# Altium footprint library running car pcb.PcbLib: 35 footprints (part 1 of 3)
Each footprint in its own frame and in the unit in brackets; x right, y up, seen from the top. Pads: shape width x height; smd on the part's side, far side on the other; paste and mask are expansions set on the pad; w line width, h text height; cw(c..) or ccw(c..) is an arc to the next point about the centre after c.
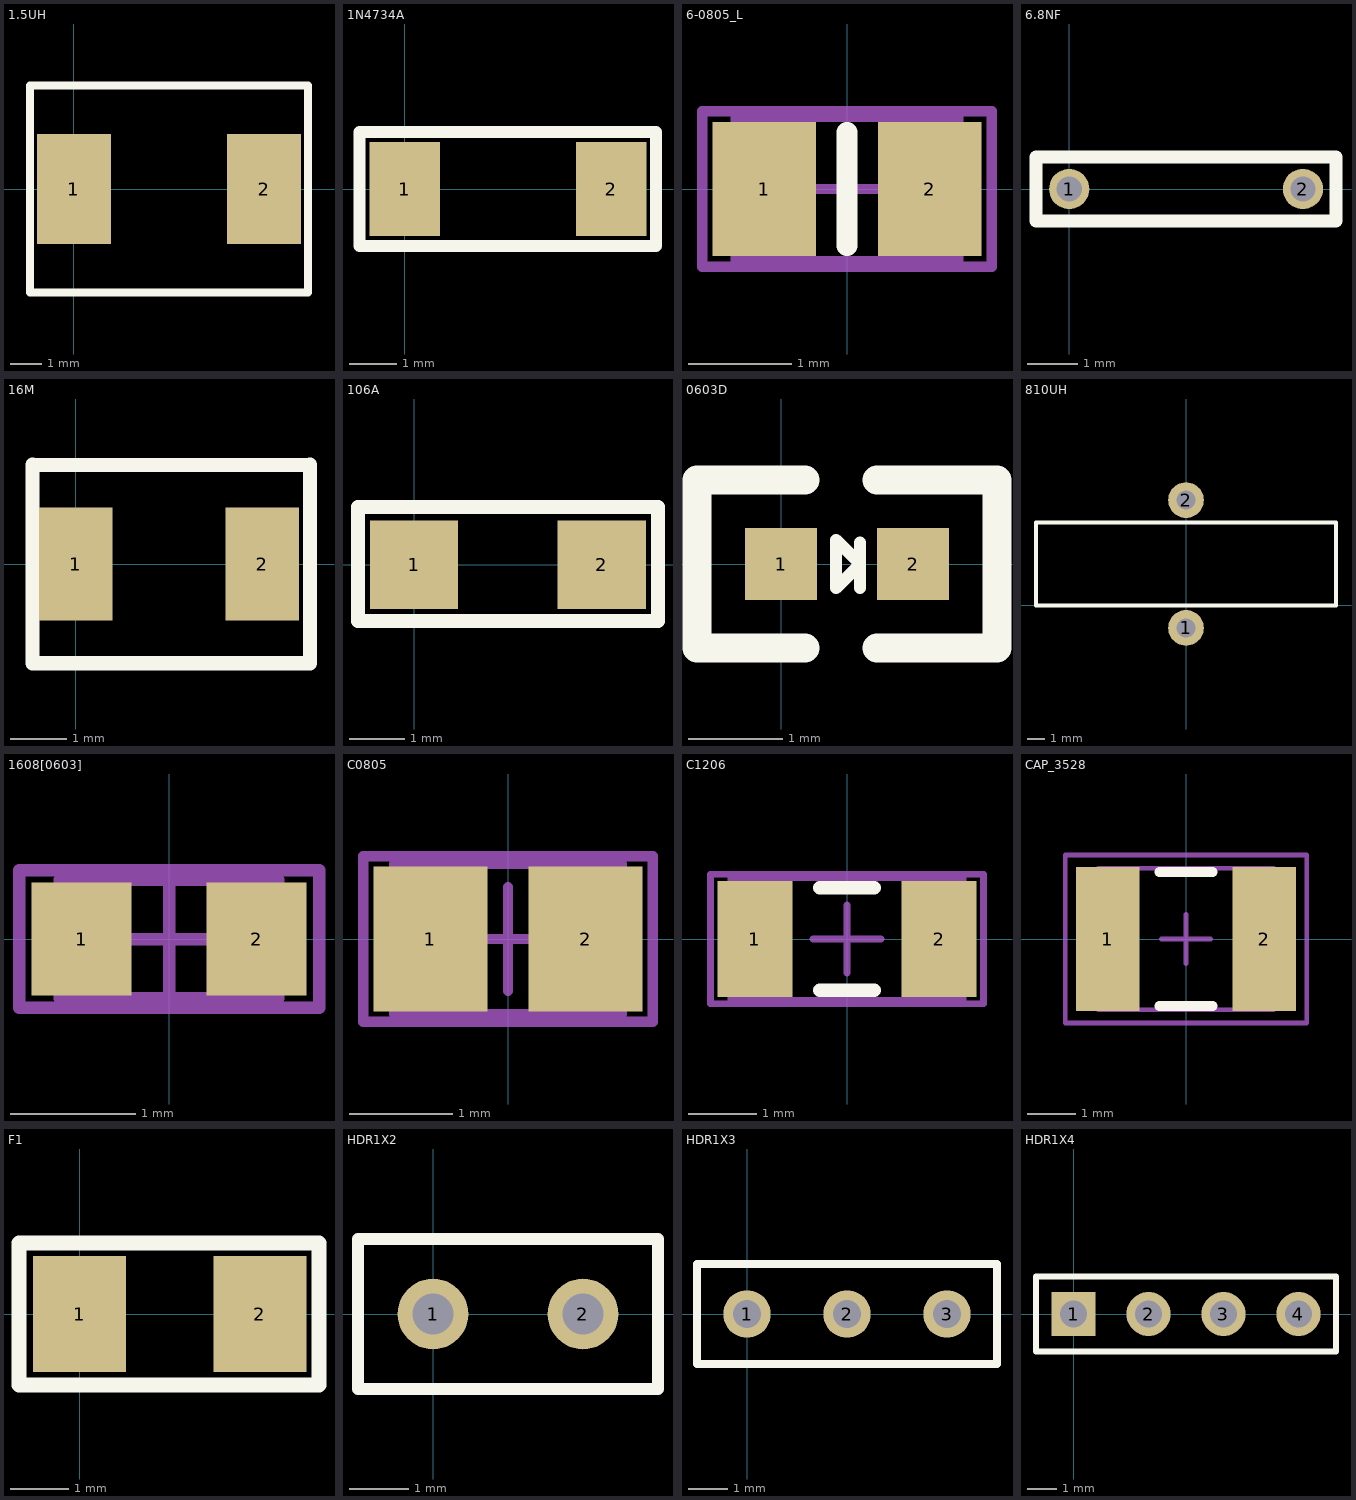
[diagram p0: the footprints below, top view; thin cyan lines are the x and y axes]

## 1.5UH [mm] "Chip Resistor, Body 2.0x1.2mm, IPC High Density"
height 0.7
pads (2):
  rect 2.35x3.5 smd: 1(0,0) 2(6.05,0)
Top Overlay:
  lines w0.254: -1.397,-3.3 -1.397,3.3 7.442,3.3 7.442,-3.3 -1.397,-3.3

## 1N4734A [mm]
pads (2):
  rect 1.5x2 smd: 1(0,0) 2(4.4,0)
Top Overlay:
  lines w0.254: -0.965,-1.219 5.359,-1.219 5.359,1.219 -0.965,1.219 -0.965,-1.219

## 6-0805_L [mm] "Chip Resistor, Body 2.0x1.2mm, IPC High Density"
height 0.7
pads (2):
  rect 1x1.3 smd: 1(-0.8,0) 2(0.8,0)
Top Overlay:
  lines w0.2: 0,-0.55 0,0.55
Mechanical 13:
  lines w0.1: -1.075,-0.7 1.075,-0.7 1.075,0.7 -1.075,0.7 -1.075,-0.7
Mechanical 15:
  lines w0.1: -0.5,0 0.5,0 ; 0,-0.5 0,0.5 ; -1.4,-0.75 1.4,-0.75 1.4,0.75 -1.4,0.75 -1.4,-0.75
3D body: height 0.7, standoff 0, extent -1.075,-0.7 1.075,0.7

## 6.8NF [mm]
pads (2):
  round 0.8 hole 0.5: 1(0,0) 2(4.65,0)
Top Overlay:
  lines w0.254: -0.66,-0.635 -0.66,0.635 5.309,0.635 5.309,-0.635 -0.66,-0.635

## 16M [mm]
pads (2):
  rect 1.3x2 smd: 1(0,0) 2(3.3,0)
Top Overlay:
  lines w0.254: -0.762,-1.75 4.14,-1.75 4.14,1.753 ; -0.762,-1.727 -0.762,1.753 ; -0.762,1.75 4.14,1.75

## 106A [mm]
pads (2):
  rect 1.6x1.6 smd: 1(0,0) 2(3.4,0)
Top Overlay:
  lines w0.254: -1.016,-1.016 -1.016,1.041 4.42,1.041 4.42,-1.016 -1.016,-1.016

## 0603D [mil]
pads (2):
  rect 30x30 smd: 1(0,0) 2(55,0)
Top Overlay:
  lines w5: 23,0 23,9 23,-10 33,0 23,10 ; 33,-10 33,9
  lines w12: 10,-35 -35,-35 -35,35 10,35 ; 40,-35 90,-35 90,35 40,35

## 810UH [mm]
pads (2):
  round 2.1 hole 1.1: 1(0,-1.319) 2(0,6.179)
Top Overlay:
  lines w0.254: -8.8,0 8.8,0 8.8,4.86 -8.8,4.86 -8.8,0.025

## 1608[0603] [mm] "Chip Capacitor, Body 1.6x0.8mm, IPC High Density"
height 1.3
pads (2):
  rect 0.8x0.9 smd: 1(-0.7,0) 2(0.7,0)
Mechanical 13:
  lines w0.1: -0.875,-0.475 0.875,-0.475 0.875,0.475 -0.875,0.475 -0.875,-0.475
Mechanical 15:
  lines w0.1: -0.475,0 0.475,0 ; 0,-0.475 0,0.475 ; -1.2,-0.55 1.2,-0.55 1.2,0.55 -1.2,0.55 -1.2,-0.55
3D body: height 1.3, standoff 0, extent -0.875,-0.475 0.875,0.475

## C0805 [mm] "Chip Capacitor, Body 2.0x1.3mm, IPC High Density"
height 1.4
pads (2):
  rect 1.1x1.4 smd: 1(-0.75,0) 2(0.75,0)
Mechanical 13:
  lines w0.1: -1.1,-0.725 -1.1,0.725 1.1,0.725 1.1,-0.725 -1.1,-0.725
Mechanical 15:
  lines w0.1: -0.5,0 0.5,0 ; 0,-0.5 0,0.5 ; -1.4,-0.8 -1.4,0.8 1.4,0.8 1.4,-0.8 -1.4,-0.8
3D body: height 1.4, standoff 0, extent -1.1,-0.725 1.1,0.725

## C1206 [mm] "Chip Capacitor, Body 3.2x1.6mm, IPC High Density"
height 1.3
pads (2):
  rect 1.1x1.7 smd: 1(-1.35,0) 2(1.35,0)
Top Overlay:
  lines w0.2: -0.4,-0.75 0.4,-0.75 ; -0.4,0.75 0.4,0.75
Mechanical 13:
  lines w0.1: -1.7,-0.9 1.7,-0.9 1.7,0.9 -1.7,0.9 -1.7,-0.9
Mechanical 15:
  lines w0.1: -0.5,0 0.5,0 ; 0,-0.5 0,0.5 ; -2,-0.95 2,-0.95 2,0.95 -2,0.95 -2,-0.95
3D body: height 1.3, standoff 0, extent -1.7,-0.9 1.7,0.9

## CAP_3528 [mm] "Chip Capacitor, 2-Leads, Body 3.5x2.9mm, IPC Medium Density"
height 1.9
pads (2):
  rect 1.3x2.95 smd: 1(-1.6,0) 2(1.6,0)
Top Overlay:
  lines w0.2: -0.55,-1.375 0.55,-1.375 ; -0.55,1.375 0.55,1.375
Mechanical 13:
  lines w0.1: -1.8,-1.45 1.8,-1.45 1.8,1.45 -1.8,1.45 -1.8,-1.45
Mechanical 15:
  lines w0.1: -0.5,0 0.5,0 ; 0,-0.5 0,0.5 ; -2.475,-1.725 2.475,-1.725 2.475,1.725 -2.475,1.725 -2.475,-1.725
3D body: height 1.9, standoff 0, extent -1.8,-1.45 1.8,1.45
3D body: height 1.9, standoff 0, extent -1.803,-1.448 -1.168,1.448

## F1 [mm]
pads (2):
  rect 1.6x2 smd: 1(0,0) 2(3.1,0)
Top Overlay:
  lines w0.254: -1.041,-1.219 4.115,-1.219 4.115,1.219 -1.041,1.219 -1.041,-1.219

## HDR1X2 [mm] "Connector; Header; 2 Position"
pads (2):
  round 1.2 hole 0.7: 1(0,0) 2(2.54,0)
Top Overlay:
  lines w0.2: -1.27,-1.27 3.81,-1.27 3.81,1.27 -1.27,1.27 -1.27,-1.27

## HDR1X3 [mm] "Connector; Header; 3 Position"
pads (3):
  round 1.2 hole 0.7: 1(0,0) 2(2.54,0) 3(5.08,0)
Top Overlay:
  lines w0.2: -1.27,-1.27 6.35,-1.27 6.35,1.27 -1.27,1.27 -1.27,-1.27

## HDR1X4 [mm] "Connector; Header; 4 Position"
pads (4):
  rect 1.5x1.5 hole 0.9: 1(0,0)
  round 1.5 hole 0.9: 2(2.54,0) 3(5.08,0) 4(7.62,0)
Top Overlay:
  lines w0.2: -1.27,-1.27 8.89,-1.27 8.89,1.27 -1.27,1.27 -1.27,-1.27